# Altium integrated library Res Array 2.IntLib: 1 symbol
Pins are listed as number, name and electrical type; pins without a type are passive.

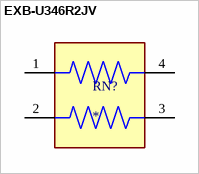
[diagram p0: symbol EXB-U346R2JV]

## EXB-U346R2JV
designator RN?
Series/Type: Anti-Sulfurated Chip Resistor Array, Power Rating (W): 0.063, Chip Size (LxW) (mm): 1.6 X 1.6, Resistance Values (â„¦): 6, Resistance Tolerance (%): 5, Terminal Pitch (mm): 0.8, Type of Circuit: Isolated Circuit, Number of Elements (piece): 2; MF: Panasonic; MP: EXB-U346R2JV; SnapEDA_Link: https://www.snapeda.com/parts/EXB-U346R2JV/Panasonic/view-part/?ref=snap; Package: NON STANDARD-4 Panasonic; Value: *; Check_prices: https://www.snapeda.com/parts/EXB-U346R2JV/Panasonic/view-part/?ref=eda
footprint RESCAXE_EXB-U346R2JV
pins: 1, 2, 3, 4